# Altium schematic symbol library ICs-DigitalPotentiometers.SchLib: 2 symbols
Pins are listed as number, name and electrical type; pins without a type are passive.

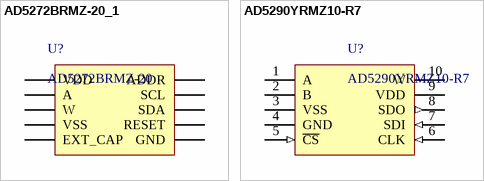
[diagram p0: symbols AD5272BRMZ-20_1 to AD5290YRMZ10-R7]

## AD5272BRMZ-20_1
designator U?, comment AD5272BRMZ-20
Digital Potentiometer ICs 1024p 5v SGL CHI2C 50-TP Mem Digi Rstat; Manufacturer: Texas Instruments; PartNumber: AD5272BRMZ-20; PackageReference: MSOP-10; PackageDescription: MSOP, 10-Leads, Body 3.00x3.00mm, Pitch 0.50mm, IPC Medium Density; Mounting Technology: Surface Mount
footprint MSOP-10 (TSSOP, 10-Leads, Body 3.00x3.00mm, Pitch 0.50mm, IPC Medium Density)
pins: 1 VDD, 2 A, 3 W, 4 VSS, 5 EXT_CAP, 6 GND, 7 RESET, 8 SDA, 9 SCL, 10 ADDR

## AD5290YRMZ10-R7
designator U?
Digital Potentiometer ICs +/-15V 8-Bit DigiPOT; Manufacturer: Texas Instruments; PartNumber: AD5290YRMZ10-R7; PackageReference: MSOP-10; PackageDescription: MSOP, 10-Leads, Body 3.00x3.00mm, Pitch 0.50mm, IPC Medium Density; Mounting Technology: Surface Mount
footprint MSOP-10 (TSSOP, 10-Leads, Body 3.00x3.00mm, Pitch 0.50mm, IPC Medium Density)
pins: 1 A, 2 B, 3 VSS (power), 4 GND (power), 5 ~{CS} (in), 6 CLK (in), 7 SDI (in), 8 SDO (out), 9 VDD (power), 10 W